# Altium schematic symbol library WE_Library.SchLib: 5 symbols
Pins are listed as number, name and electrical type; pins without a type are passive.

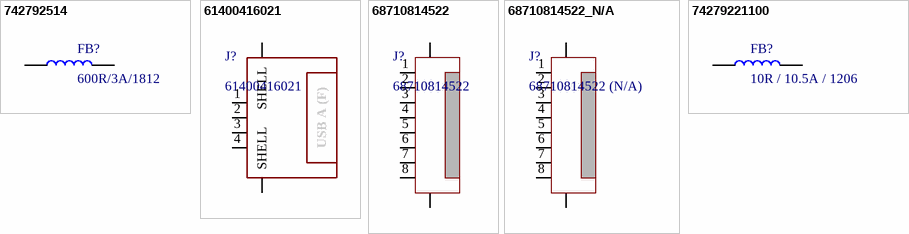
[diagram p0: symbols 742792514 to 74279221100]

## 742792514
designator FB?, comment 600R/3A/1812
Ferrite Beads WE-CBF 1812 SMD Bead 100MHz 600Ohm 3000mA; Manufacturer: Wurth Electronics; Manufacturer Part Number: 742792514; Impedance: 600 Ohms; Maximum DC Current: 3 A; Maximum DC Resistance: 40 mOhms; Tolerance: 25 %; Type: SMD EMI Suppression Ferrite Bead WE-CBF; Supplier 1: Mouser; RoHS: RoHS Compliant; Category: Ferrite Beads; Stock 1: 4514; Pricing 1: 1=0.295, 10=0.281, 50=0.258, 100=0.247, 500=0.236, 1000=0.236 (USD); Capacitance: -; Height: 1.5 mm; Length: 4.5 mm; Operating Temperature Range: - 55 C to + 125 C; Package / Case: 1812 (4532 metric); Packaging: Cut Tape; Product: Ferrite Chip Beads; Series: WE-CBF; Termination Style: SMD/SMT; Width: 3.2 mm; Brand: Wurth Electronics; Maximum Operating Temperature: + 125 C; Minimum Operating Temperature: - 55 C; Standard Pack Qty: 1000; Termination: -; Test Frequency: 100 MHz; RoHS - Mouser: Y; Minimum Order Quantity: 1; Reeling: True; ComponentLink1URL: https://www.mouser.com/ds/2/445/742792514-538634.pdf; ComponentLink1Description: https://www.mouser.com/ds/2/445/742792514-538634.pdf
footprint FerriteBead 1812
pins: 1, 2

## 61400416021
designator J?
USB - A USB 2.0 Receptacle Connector 4 Position Through Hole, Right Angle, Horizontal; Manufacturer: Wurth Electronics; Connector Type: USB,Socket; Number of Contacts: 4; Current Rating: 1A; Voltage Rating: 30V; Number of Ports: 1; Insulation Resistance: 1GR; USB Standard: USB 2.0; Supplier 1: Mouser; Manufacturer Part Number: 61400416021; Stock 1: 1100; Pricing 1: 1=0.99, 10=0.874, 50=0.823, 100=0.739, 1000=0.672, 10000=0.672 (USD); Mount: Through Hole,Horizontal; Contact Plating: Gold; Contact Material: Copper Alloy; Colour: White; Min Operating Temperature: -40°C; Max Operating Temperature: 105°C; Packaging: Tray; Gender: Receptacle; Package Quantity: 60; Number of Positions: 4; Termination: Solder; Orientation: Right Angle; Length: 15.8mm; Width: 14.4mm; REACH SVHC: Unknown; Lead Free: Lead Free; Flammability Rating: UL94 V-0; ComponentLink1URL: https://datasheet.ciiva.com/851/61400416021-851760.pdf; ComponentLink1Description: https://datasheet.ciiva.com/851/61400416021-851760.pdf; ComponentLink2URL: https://datasheet.ciiva.com/1098/1712150-1098928.pdf; ComponentLink2Description: https://datasheet.ciiva.com/1098/1712150-1098928.pdf; ComponentLink3URL: https://datasheet.ciiva.com/4598/61400416021-63715-4598787.pdf; ComponentLink3Description: https://datasheet.ciiva.com/4598/61400416021-63715-4598787.pdf; ComponentLink4URL: https://datasheet.ciiva.com/11731/0900766b81023ab4-11731304.pdf; ComponentLink4Description: https://datasheet.ciiva.com/11731/0900766b81023ab4-11731304.pdf; ComponentLink5URL: https://datasheet.ciiva.com/1100/76585-1100559.pdf; ComponentLink5Description: https://datasheet.ciiva.com/1100/76585-1100559.pdf; ComponentLink6URL: https://datasheet.ciiva.com/14103/4257096-eng-datasheet-14103431.pdf; ComponentLink6Description: https://datasheet.ciiva.com/14103/4257096-eng-datasheet-14103431.pdf; ComponentLink7URL: https://datasheet.ciiva.com/48712/001088207-da-01-en-wr-com-usb-typ-a-61400416021-48712661.pdf; ComponentLink7Description: https://datasheet.ciiva.com/48712/001088207-da-01-en-wr-com-usb-typ-a-61400416021-48712661.pdf
footprint WE USB connector 61400416021
pins: 1, 2, 3, 4, SHELL, SHELL2 SHELL
text: USB A (F)

## 68710814522
designator J?
CONN FPC BOTTOM 8POS 0.50MM R/A; Manufacturer: Wurth Electronics; Actuator Material: Polymer,Liquid Crystal Polymer; Current Rating: 500mA; Voltage Rating: 50V; Number of Positions: 8; Insulation Resistance: 100MR; Gender: Male; Pitch: 0.5mm; Supplier 1: Mouser; Manufacturer Part Number: 68710814522; Stock 1: 2190; Pricing 1: 1=1.02, 10=0.991, 50=0.923, 100=0.854, 1000=0.718, 10000=0.635 (USD); Mount: Surface Mount; Contact Material: Bronze,Tin; Contact Plating: Tin; Housing Material: Liquid Crystal Polymer; Min Operating Temperature: -25°C; Max Operating Temperature: 85°C; Number of Rows: 1; Packaging: Tape and Reel; Package Quantity: 2000; Contact Location: Bottom; Termination: SMD/SMT; Number of Contacts: 8; Orientation: Straight; Length: 10.4mm; Width: 2.1mm; REACH SVHC: Unknown; Flammability Rating: UL94 V-0; ComponentLink1URL: https://datasheet.ciiva.com/670/6871xx14522-670726.pdf; ComponentLink1Description: https://datasheet.ciiva.com/670/6871xx14522-670726.pdf; ComponentLink2URL: https://datasheet.ciiva.com/670/6871xx14522-670727.pdf; ComponentLink2Description: https://datasheet.ciiva.com/670/6871xx14522-670727.pdf; ComponentLink3URL: https://datasheet.ciiva.com/670/6871xx14522-670728.pdf; ComponentLink3Description: https://datasheet.ciiva.com/670/6871xx14522-670728.pdf; ComponentLink4URL: https://datasheet.ciiva.com/14153/6871xx14522-eng-datasheet-14153886.pdf; ComponentLink4Description: https://datasheet.ciiva.com/14153/6871xx14522-eng-datasheet-14153886.pdf; ComponentLink5URL: https://datasheet.ciiva.com/29318/709082-da-01-en-smd-zif-stecker-90grad-kontakte-unten-8-29318044.pdf; ComponentLink5Description: https://datasheet.ciiva.com/29318/709082-da-01-en-smd-zif-stecker-90grad-kontakte-unten-8-29318044.pdf
footprint WE 68710814522
pins: 1, 2, 3, 4, 5, 6, 7, 8, 9, 10

## 68710814522_N/A
designator J?, comment 68710814522 (N/A)  (no BOM)
CONN FPC BOTTOM 8POS 0.50MM R/A; Manufacturer: Wurth Electronics; Actuator Material: Polymer,Liquid Crystal Polymer; Current Rating: 500mA; Voltage Rating: 50V; Number of Positions: 8; Insulation Resistance: 100MR; Gender: Male; Pitch: 0.5mm; Supplier 1: Mouser; Manufacturer Part Number: 68710814522; Stock 1: 2190; Pricing 1: 1=1.02, 10=0.991, 50=0.923, 100=0.854, 1000=0.718, 10000=0.635 (USD); Mount: Surface Mount; Contact Material: Bronze,Tin; Contact Plating: Tin; Housing Material: Liquid Crystal Polymer; Min Operating Temperature: -25°C; Max Operating Temperature: 85°C; Number of Rows: 1; Packaging: Tape and Reel; Package Quantity: 2000; Contact Location: Bottom; Termination: SMD/SMT; Number of Contacts: 8; Orientation: Straight; Length: 10.4mm; Width: 2.1mm; REACH SVHC: Unknown; Flammability Rating: UL94 V-0; ComponentLink1URL: https://datasheet.ciiva.com/670/6871xx14522-670726.pdf; ComponentLink1Description: https://datasheet.ciiva.com/670/6871xx14522-670726.pdf; ComponentLink2URL: https://datasheet.ciiva.com/670/6871xx14522-670727.pdf; ComponentLink2Description: https://datasheet.ciiva.com/670/6871xx14522-670727.pdf; ComponentLink3URL: https://datasheet.ciiva.com/670/6871xx14522-670728.pdf; ComponentLink3Description: https://datasheet.ciiva.com/670/6871xx14522-670728.pdf; ComponentLink4URL: https://datasheet.ciiva.com/14153/6871xx14522-eng-datasheet-14153886.pdf; ComponentLink4Description: https://datasheet.ciiva.com/14153/6871xx14522-eng-datasheet-14153886.pdf; ComponentLink5URL: https://datasheet.ciiva.com/29318/709082-da-01-en-smd-zif-stecker-90grad-kontakte-unten-8-29318044.pdf; ComponentLink5Description: https://datasheet.ciiva.com/29318/709082-da-01-en-smd-zif-stecker-90grad-kontakte-unten-8-29318044.pdf
footprint WE 68710814522 N/A
pins: 1, 2, 3, 4, 5, 6, 7, 8, 9, 10

## 74279221100
designator FB?, comment 10R / 10.5A / 1206
WURTH ELEKTRONIK         74279221100             FERRITE BEAD, 3000UOHM, 10.5A, 1206; Manufacturer: Wurth Electronics; Number of Lines: 1; DC Resistance (DCR): 3mR; Tolerance: 25%; Test Frequency: 100MHz; Supplier 1: Mouser; Manufacturer Part Number: 74279221100; Stock 1: 3416; Pricing 1: 1=0.44, 10=0.44, 50=0.407, 100=0.37, 1000=0.306, 10000=0.278 (USD); Mount: Surface Mount; Case/Package: 1206; Weight: 0.000353oz; Case Code (Metric): 3216; Case Code (Imperial): 1206; Min Operating Temperature: -55°C; Max Operating Temperature: 125°C; Resistance: 10R; Package Quantity: 3000; Packaging: Tape and Reel; Max Current Rating: 10.5A; Max DC Current: 10.5A; Termination: SMD/SMT; Impedance: 10R; Length: 0.126inch; Height: 0.051inch; Width: 0.063inch; REACH SVHC: Unknown; ComponentLink1URL: http://www.farnell.com/datasheets/1880875.pdf; ComponentLink1Description: http://www.farnell.com/datasheets/1880875.pdf; ComponentLink2URL: http://katalog.we-online.de/pbs/datasheet/74279221100.pdf; ComponentLink2Description: http://katalog.we-online.de/pbs/datasheet/74279221100.pdf; ComponentLink3URL: http://www.mouser.com/ds/2/445/74279221100-516301.pdf; ComponentLink3Description: http://www.mouser.com/ds/2/445/74279221100-516301.pdf
footprint FerriteBead 1206 WE-MPSB
pins: 1, 2